# Altium schematic symbol library OD_SCH.SchLib: 16 symbols
Pins are listed as number, name and electrical type; pins without a type are passive.

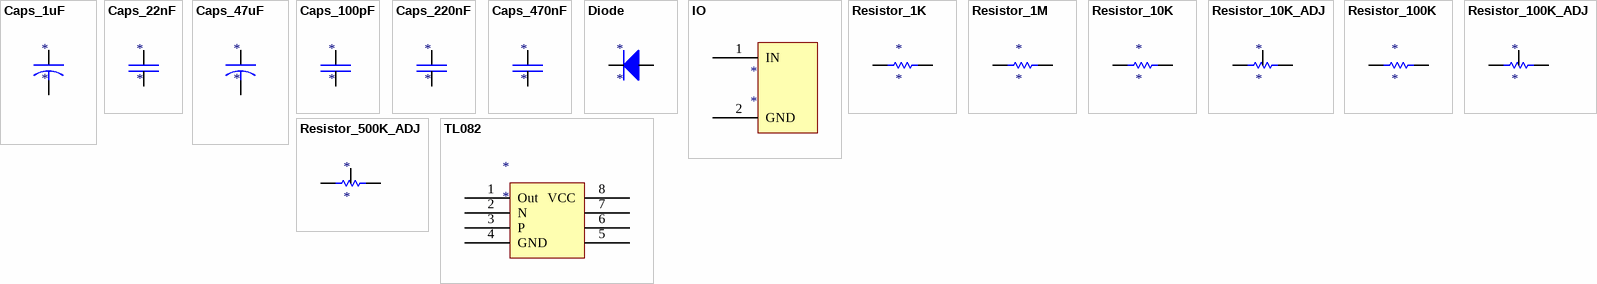
[diagram p0: symbols Caps_1uF to TL082]

## Caps_1uF
designator *
footprint Caps_47uF
pins: 1, 2

## Caps_22nF
designator *
footprint CAPS_1uF
pins: 1, 2

## Caps_47uF
designator *
footprint Caps_47uF
pins: 1, 2

## Caps_100pF
designator *
footprint CAPS_1uF
pins: 1, 2

## Caps_220nF
designator *
footprint CAPS_1uF
pins: 1, 2

## Caps_470nF
designator *
footprint CAPS_470uF
pins: 1, 2

## Diode
designator *
footprint Diode
pins: 1, 2

## IO
designator *
footprint CAPS_100pF
pins: 1 IN, 2 GND

## Resistor_1K
designator *
footprint Resistor_10k
pins: 1, 2

## Resistor_1M
designator *
footprint Resistor_10k
pins: 1, 2

## Resistor_10K
designator *
footprint Resistor_10k
pins: 1, 2

## Resistor_10K_ADJ
designator *
footprint Resistor_10k
pins: 1, 2, 2

## Resistor_100K
designator *
footprint Resistor_10k
pins: 1, 2

## Resistor_100K_ADJ
designator *
footprint Resistor_10k
pins: 1, 2, 2

## Resistor_500K_ADJ
designator *
footprint Resistor_10k
pins: 1, 2, 2

## TL082
designator *
footprint TL082 (Amplifier)
pins: 1 Out, 2 N, 3 P, 4 GND, 5, 6, 7, 8 VCC